# Altium footprint library FS8205A.PcbLib: 3 footprints
Each footprint in its own frame and in the unit in brackets; x right, y up, seen from the top. Pads: shape width x height; smd on the part's side, far side on the other; paste and mask are expansions set on the pad; w line width, h text height; cw(c..) or ccw(c..) is an arc to the next point about the centre after c.
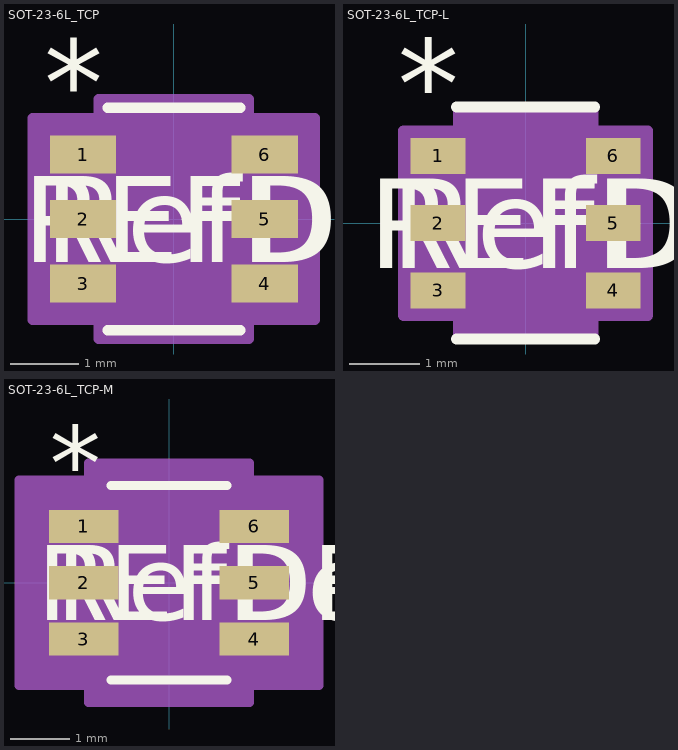
[diagram p0: the footprints below, top view; thin cyan lines are the x and y axes]

## SOT-23-6L_TCP [mm]
pads (6):
  rect 0.972x0.558 smd paste+0 mask+0: 1(-1.337,0.95) 2(-1.337,0) 3(-1.337,-0.95) 4(1.337,-0.95) 5(1.337,0) 6(1.337,0.95)
Top Overlay:
  lines w0.152: -0.978,-1.638 0.978,-1.638 ; -0.978,1.638 0.978,1.638
  text "REFDES" at -2.222,-0.635 h1.27
  text "*" at -1.909,1.381 h1.27
  text "RefDes" at -1.905,-0.635 h1.27
Mechanical 13:
  lines w0: -0.305,1.511 ccw(c0,1.511) 0.305,1.511
  lines w0.025: -1.473,-1.204 -1.473,-0.696 -0.851,-0.696 -0.851,-1.204 -1.473,-1.204 ; -1.473,-0.254 -1.473,0.254 -0.851,0.254 -0.851,-0.254 -1.473,-0.254 ; -1.473,0.696 -1.473,1.204 -0.851,1.204 -0.851,0.696 -1.473,0.696 ; -0.851,-1.511 0.851,-1.511 0.851,1.511 -0.851,1.511 -0.851,-1.511 ; 0.851,-1.204 0.851,-0.696 1.473,-0.696 1.473,-1.204 0.851,-1.204 ; 0.851,-0.254 0.851,0.254 1.473,0.254 1.473,-0.254 0.851,-0.254 ; 0.851,0.696 0.851,1.204 1.473,1.204 1.473,0.696 0.851,0.696
  text "*" at -0.787,0.165 h1.27
  text "RefDes2" at -2.222,-0.635 h1.27
Mechanical 15:
  region: -1.105,-1.483 -2.077,-1.483 -2.077,1.483 -1.105,1.483 -1.105,1.765 1.105,1.765 1.105,1.483 2.077,1.483 2.077,-1.483 1.105,-1.483 1.105,-1.765 -1.105,-1.765
  lines w0.152: -2.077,-1.483 -2.077,1.483 -1.105,1.483 -1.105,1.765 1.105,1.765 1.105,1.483 2.077,1.483 2.077,-1.483 1.105,-1.483 1.105,-1.765 -1.105,-1.765 -1.105,-1.483 -2.077,-1.483
3D body "SOT-23-6L_TCP.step": height 1.25, standoff 0, extent -1.473,-1.511 1.473,1.511

## SOT-23-6L_TCP-L [mil]
pads (6):
  rect 30.41x20 smd paste+0 mask+0: 1(-48.7,37.4) 2(-48.7,0) 3(-48.7,-37.4) 4(48.7,-37.4) 5(48.7,0) 6(48.7,37.4)
Top Overlay:
  lines w6: -38.5,-64.5 38.5,-64.5 ; -38.5,64.5 38.5,64.5
  text "REFDES" at -87.5,-25 h50
  text "*" at -71.2,52.4 h50
  text "RefDes" at -75,-25 h50
Mechanical 13:
  lines w0: -12,59.5 ccw(c0,59.5) 12,59.5
  lines w1: -58,-47.4 -58,-27.4 -33.5,-27.4 -33.5,-47.4 -58,-47.4 ; -58,-10 -58,10 -33.5,10 -33.5,-10 -58,-10 ; -58,27.4 -58,47.4 -33.5,47.4 -33.5,27.4 -58,27.4 ; -33.5,-59.5 33.5,-59.5 33.5,59.5 -33.5,59.5 -33.5,-59.5 ; 33.5,-47.4 33.5,-27.4 58,-27.4 58,-47.4 33.5,-47.4 ; 33.5,-10 33.5,10 58,10 58,-10 33.5,-10 ; 33.5,27.4 33.5,47.4 58,47.4 58,27.4 33.5,27.4
  text "*" at -31,6.5 h50
  text "RefDes2" at -87.5,-25 h50
Mechanical 15:
  region: -37.5,-51.4 -67.91,-51.4 -67.91,51.4 -37.5,51.4 -37.5,63.5 37.5,63.5 37.5,51.4 67.91,51.4 67.91,-51.4 37.5,-51.4 37.5,-63.5 -37.5,-63.5
  lines w6: -67.91,-51.4 -67.91,51.4 -37.5,51.4 -37.5,63.5 37.5,63.5 37.5,51.4 67.91,51.4 67.91,-51.4 37.5,-51.4 37.5,-63.5 -37.5,-63.5 -37.5,-51.4 -67.91,-51.4
3D body "SOT-23-6L_TCP.step": height 49.09, standoff 0, extent -57.99,-59.49 57.99,59.49

## SOT-23-6L_TCP-M [mm]
pads (6):
  rect 1.172x0.558 smd paste+0 mask+0: 1(-1.437,0.95) 2(-1.437,0) 3(-1.437,-0.95) 4(1.437,-0.95) 5(1.437,0) 6(1.437,0.95)
Top Overlay:
  lines w0.152: -0.978,-1.638 0.978,-1.638 ; -0.978,1.638 0.978,1.638
  text "REFDES" at -2.222,-0.635 h1.27
  text "*" at -2.009,1.381 h1.27
  text "RefDes" at -1.905,-0.635 h1.27
Mechanical 13:
  lines w0: -0.305,1.511 ccw(c0,1.511) 0.305,1.511
  lines w0.025: -1.473,-1.204 -1.473,-0.696 -0.851,-0.696 -0.851,-1.204 -1.473,-1.204 ; -1.473,-0.254 -1.473,0.254 -0.851,0.254 -0.851,-0.254 -1.473,-0.254 ; -1.473,0.696 -1.473,1.204 -0.851,1.204 -0.851,0.696 -1.473,0.696 ; -0.851,-1.511 0.851,-1.511 0.851,1.511 -0.851,1.511 -0.851,-1.511 ; 0.851,-1.204 0.851,-0.696 1.473,-0.696 1.473,-1.204 0.851,-1.204 ; 0.851,-0.254 0.851,0.254 1.473,0.254 1.473,-0.254 0.851,-0.254 ; 0.851,0.696 0.851,1.204 1.473,1.204 1.473,0.696 0.851,0.696
  text "*" at -0.787,0.165 h1.27
  text "RefDes2" at -2.222,-0.635 h1.27
Mechanical 15:
  region: -1.359,-1.737 -2.531,-1.737 -2.531,1.737 -1.359,1.737 -1.359,2.019 1.359,2.019 1.359,1.737 2.531,1.737 2.531,-1.737 1.359,-1.737 1.359,-2.019 -1.359,-2.019
  lines w0.152: -2.531,-1.737 -2.531,1.737 -1.359,1.737 -1.359,2.019 1.359,2.019 1.359,1.737 2.531,1.737 2.531,-1.737 1.359,-1.737 1.359,-2.019 -1.359,-2.019 -1.359,-1.737 -2.531,-1.737
3D body "SOT-23-6L_TCP.step": height 1.25, standoff 0, extent -1.473,-1.511 1.473,1.511